# Altium footprint library uw-madison-parts.PcbLib: 30 footprints (part 1 of 2)
Each footprint in its own frame and in the unit in brackets; x right, y up, seen from the top. Pads: shape width x height; smd on the part's side, far side on the other; paste and mask are expansions set on the pad; w line width, h text height; cw(c..) or ccw(c..) is an arc to the next point about the centre after c.
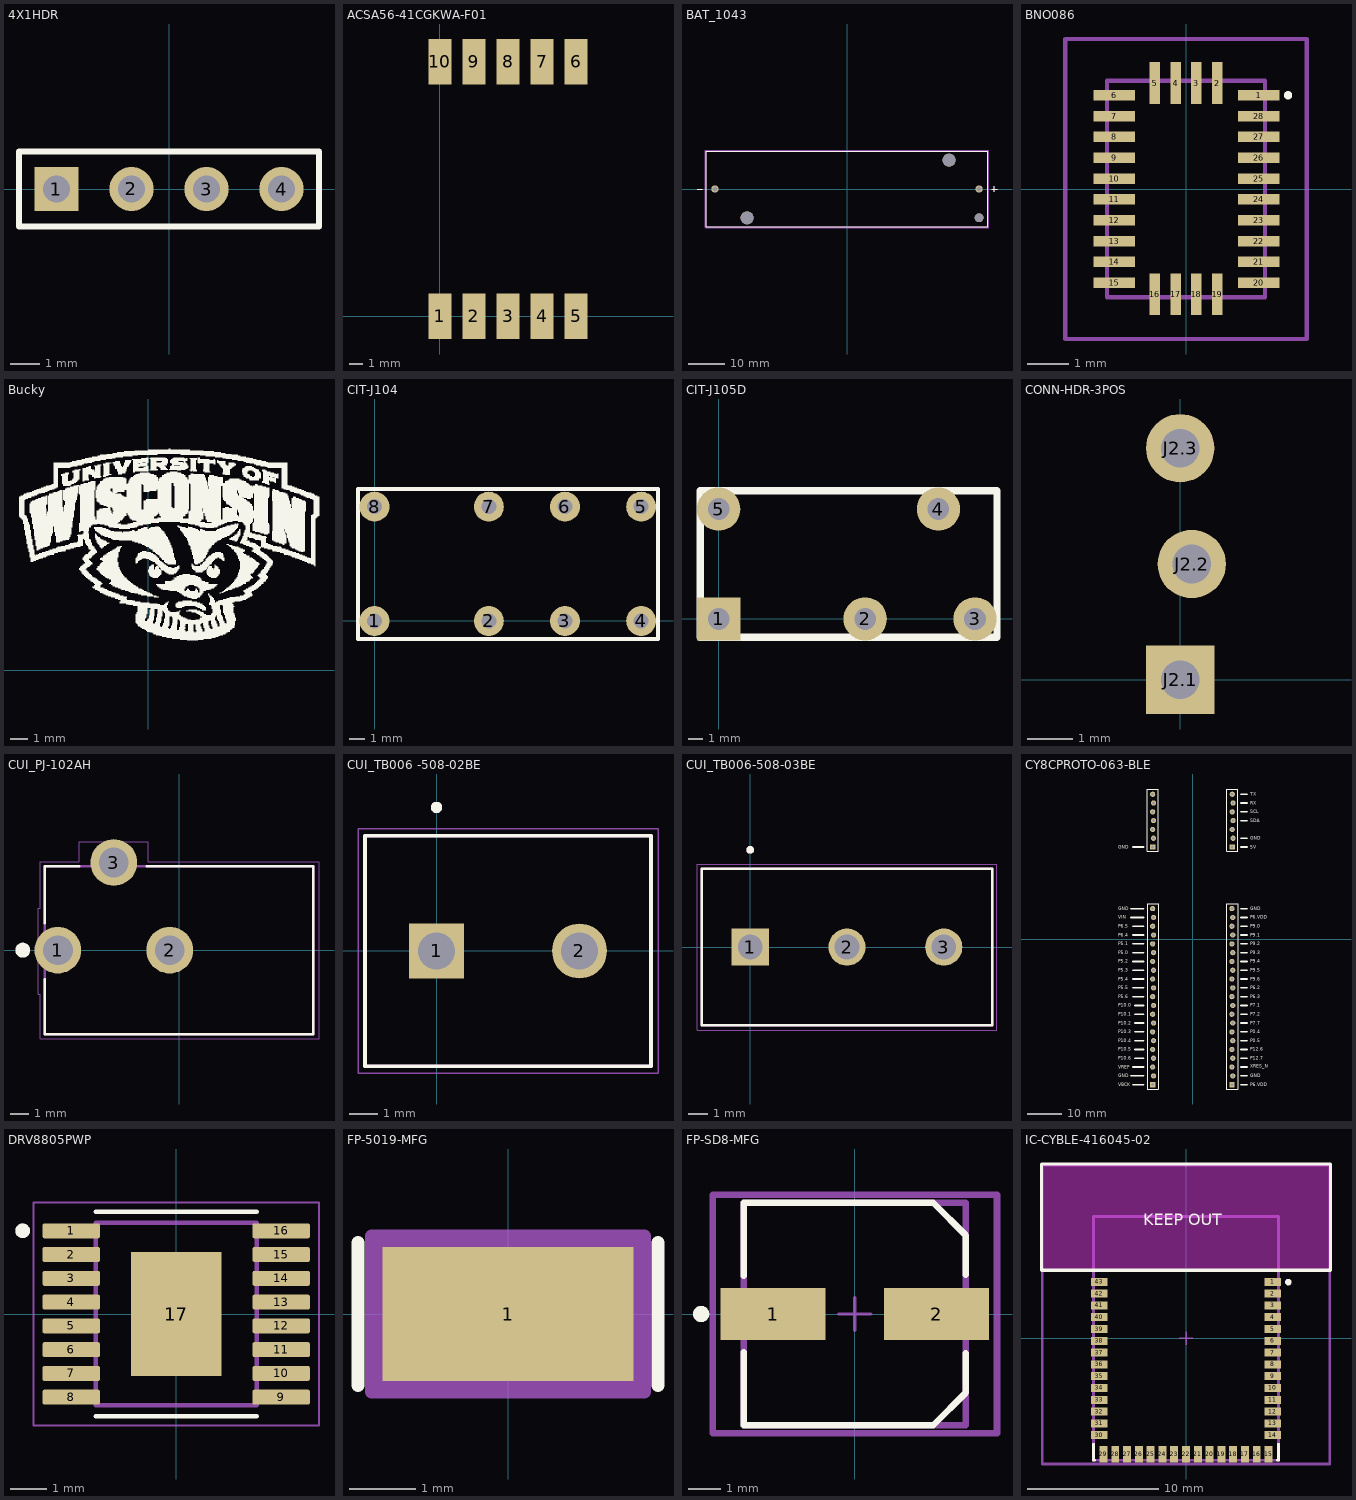
[diagram p0: the footprints below, top view; thin cyan lines are the x and y axes]

## 4X1HDR [mm]
pads (4):
  rect 1.5x1.5 hole 0.9: 1(-3.81,0)
  round 1.5 hole 0.9: 2(-1.27,0) 3(1.27,0) 4(3.81,0)
Top Overlay:
  lines w0.2: -5.08,-1.27 -5.08,1.27 5.08,1.27 5.08,-1.27 -5.08,-1.27
3D body "61300411121_Download_STP_61300411121_rev1.stp": height 8.55, standoff -2.99, extent -5.08,-1.27 5.08,1.27

## ACSA56-41CGKWA-F01 [mm]
pads (10):
  rect 1.7x3.4 smd: 1(0,0) 2(2.54,0) 3(5.08,0) 4(7.62,0) 5(10.16,0) 6(10.16,19) 7(7.62,19) 8(5.08,19) 9(2.54,19) 10(0,19)
3D body "ACSA56-41CGKWA-F01.step": height 3.8, standoff 0, extent -1.12,0.025 11.28,19.025

## BAT_1043 [mm]
height 14.86
pads (5):
  round 1.98 hole 1.32: N(-36.11,0) P(36.11,0)
  round 3.55 hole 3.55 unplated: ""(-27.29,-7.87) ""(27.91,7.87)
  round 2.39 hole 2.39 unplated: ""(36.11,-7.87)
Top Overlay:
  lines w0.127: -41,0 -39.5,0 ; 39.5,0 41,0 ; 40.25,-0.75 40.25,0.75 ; -38.525,-10.325 -38.525,10.325 38.525,10.325 38.525,-10.325 -38.525,-10.325
Mechanical 13:
  lines w0.127: -41,0 -39.5,0 ; 39.5,0 41,0 ; 40.25,-0.75 40.25,0.75 ; -38.525,-10.325 -38.525,10.325 38.525,10.325 38.525,-10.325 -38.525,-10.325
Mechanical 15:
  lines w0.05: -38.775,-10.575 -38.775,10.575 38.775,10.575 38.775,-10.575 -38.775,-10.575
3D body "step_temp.STEP": height 14.86, standoff -3.56, extent -38.532,-10.325 38.532,10.325

## BNO086 [mm]
pads (28):
  rect 1x0.25 smd: 1(1.743,2.25) 6(-1.724,2.25) 7(-1.724,1.75) 8(-1.724,1.25) 9(-1.724,0.75) 10(-1.724,0.25) 11(-1.724,-0.25) 12(-1.724,-0.75) 13(-1.724,-1.25) 14(-1.724,-1.75) 15(-1.724,-2.25) 20(1.743,-2.25) 21(1.743,-1.75) 22(1.743,-1.25) 23(1.743,-0.75) 24(1.743,-0.25) 25(1.743,0.25) 26(1.743,0.75) 27(1.743,1.25) 28(1.743,1.75)
  rect 0.25x1 smd: 2(0.75,2.542) 3(0.25,2.542) 4(-0.25,2.542) 5(-0.75,2.542) 16(-0.75,-2.525) 17(-0.25,-2.525) 18(0.25,-2.525) 19(0.75,-2.525)
Top Overlay:
  lines w0.1: 2.4,2.25 cw(c2.45,2.25) 2.5,2.25 cw(c2.45,2.25) 2.4,2.25
Mechanical 15:
  lines w0.1: -1.9,-2.6 1.9,-2.6 1.9,2.6 -1.9,2.6 -1.9,-2.6
Bottom Assembly:
  lines w0.1: -2.9,-3.6 2.9,-3.6 2.9,3.6 -2.9,3.6 -2.9,-3.6
3D body "BNO086.stp": height 1.13, standoff 0, extent -1.9,-2.6 1.9,2.6

## Bucky [mm]
Top Overlay:
  drawing of 2083 lines, arcs and shapes, not listed

## CIT-J104 [mm]
pads (8):
  round 2 hole 1: 1(0,0) 2(7.62,0) 3(12.7,0) 4(17.78,0) 5(17.78,7.62) 6(12.7,7.62) 7(7.62,7.62) 8(0,7.62)
Top Overlay:
  lines w0.25: -1.1,-1.2 -1.1,8.8 18.9,8.8 18.9,-1.2 -1.1,-1.2

## CIT-J105D [mm]
pads (5):
  rect 3x3 hole 1.5: 1(0,0)
  round 3 hole 1.5: 2(10.16,0) 3(17.78,0) 4(15.24,7.62) 5(0,7.62)
Top Overlay:
  lines w0.5: -1.27,-1.27 -1.27,8.89
  lines w0.508: -1.27,-1.27 19.304,-1.27 19.304,8.89 -1.27,8.89

## CONN-HDR-3POS [mm] "CONN HEADER VERT 3POS 2.54MM"
pads (3):
  rect 1.5x1.5 hole 0.85: J2.1(0,0)
  round 1.5 hole 0.85: J2.2(0.254,2.54) J2.3(0,5.08)

## CUI_PJ-102AH [mm]
pads (3):
  round 2.5 hole 1.6: 1(-6.5,0) 2(-0.5,0) 3(-3.5,4.7)
Top Overlay:
  circle w0.4: c-8.382,0 r0.2
  lines w0.127: -7.2,-1.55 -7.2,-4.5 7.2,-4.5 7.2,4.5 -1.75,4.5 ; -7.2,1.45 -7.2,4.5 -5.35,4.5
Mechanical 13:
  lines w0.127: -7.2,-4.5 7.2,-4.5 7.2,4.5 -7.2,4.5 -7.2,-4.5
Mechanical 15:
  lines w0.05: -7.55,-2.35 -7.55,2.25 -7.45,2.25 -7.45,4.75 -5.35,4.75 -5.35,5.8 -1.65,5.8 -1.65,4.75 7.5,4.75 7.5,-4.75 -7.45,-4.75 -7.45,-2.35 -7.55,-2.35

## CUI_TB006 -508-02BE [mm]
pads (2):
  rect 1.95x1.95 / inner round 1.95 / far side rect 1.95x1.95 hole 1.3: 1(0,0)
  round 1.95 hole 1.3: 2(5.08,0)
Top Overlay:
  circle w0.2: c0,5.1 r0.1
  lines w0.127: -2.54,-4.1 -2.54,4.1 7.62,4.1 7.62,-4.1 -2.54,-4.1
Mechanical 13:
  circle w0.2: c0,5.1 r0.1
  lines w0.127: -2.54,-4.1 -2.54,4.1 7.62,4.1 7.62,-4.1 -2.54,-4.1
Mechanical 15:
  lines w0.05: -2.79,-4.35 7.87,-4.35 7.87,4.35 -2.79,4.35 -2.79,-4.35

## CUI_TB006-508-03BE [mm]
pads (3):
  rect 1.95x1.95 / inner round 1.95 / far side rect 1.95x1.95 hole 1.3: 1(0,0)
  round 1.95 hole 1.3: 2(5.08,0) 3(10.16,0)
Top Overlay:
  circle w0.2: c0,5.1 r0.1
  lines w0.127: -2.54,-4.1 12.7,-4.1 12.7,4.1 -2.54,4.1 -2.54,-4.1
Mechanical 13:
  circle w0.2: c0,5.1 r0.1
  lines w0.127: -2.54,-4.1 12.7,-4.1 12.7,4.1 -2.54,4.1 -2.54,-4.1
Mechanical 15:
  lines w0.05: -2.79,-4.35 -2.79,4.35 12.95,4.35 12.95,-4.35 -2.79,-4.35
3D body "step_temp.STEP": height 10, standoff -3.8, extent -3.04,-4.1 12.7,4.1

## CY8CPROTO-063-BLE [mm]
pads (56):
  rect 1.5x1.5 hole 0.85: J1.1(11.253,-41.911) J2.1(-11.607,-41.911) J6.1(11.353,26.671) J7.1(-11.607,26.671)
  round 1.5 hole 0.85: J1.2(11.507,-39.371) J1.3(11.253,-36.831) J1.4(11.507,-34.291) J1.5(11.253,-31.751) J1.6(11.507,-29.211) J1.7(11.253,-26.671) J1.8(11.507,-24.131) J1.9(11.253,-21.591) J1.10(11.507,-19.051) J1.11(11.253,-16.511) J1.12(11.507,-13.971) J1.13(11.253,-11.431) J1.14(11.507,-8.891) J1.15(11.253,-6.351) J1.16(11.507,-3.811) J1.17(11.253,-1.271) J1.18(11.507,1.269) J1.19(11.253,3.809) J1.20(11.507,6.349) J1.21(11.253,8.889) J2.2(-11.353,-39.371) J2.3(-11.607,-36.831) J2.4(-11.353,-34.291) J2.5(-11.607,-31.751) J2.6(-11.353,-29.211) J2.7(-11.607,-26.671) J2.8(-11.353,-24.131) J2.9(-11.607,-21.591) J2.10(-11.353,-19.051) J2.11(-11.607,-16.511) J2.12(-11.353,-13.971) J2.13(-11.607,-11.431) J2.14(-11.353,-8.891) J2.15(-11.607,-6.351) J2.16(-11.353,-3.811) J2.17(-11.607,-1.271) J2.18(-11.353,1.269) J2.19(-11.607,3.809) J2.20(-11.353,6.349) J2.21(-11.607,8.889) J6.2(11.607,29.211) J6.3(11.353,31.751) J6.4(11.607,34.291) J6.5(11.353,36.831) J6.6(11.607,39.371) J6.7(11.353,41.911) J7.2(-11.353,29.211) J7.3(-11.607,31.751) J7.4(-11.353,34.291) J7.5(-11.607,36.831) J7.6(-11.353,39.371) J7.7(-11.607,41.911)
Top Overlay:
  lines w0.254: -13.23,-43.161 -9.98,-43.161 -9.98,10.339 -13.23,10.339 -13.23,-43.161 ; -13.23,25.421 -9.98,25.421 -9.98,43.421 -13.23,43.421 -13.23,25.421 ; 9.63,-43.161 9.63,10.339 12.88,10.339 12.88,-43.161 9.63,-43.161 ; 9.73,25.421 12.98,25.421 12.98,43.421 9.73,43.421 9.73,25.421
  lines w0.508: -17.957,-39.371 -14.147,-39.371 ; -17.957,6.349 -14.147,6.349 ; -17.957,8.889 -14.147,8.889 ; -17.322,-41.911 -14.147,-41.911 ; -17.322,-36.831 -14.147,-36.831 ; -17.322,-16.511 -14.147,-16.511 ; -17.322,-13.971 -14.147,-13.971 ; -17.322,-11.431 -14.147,-11.431 ; -17.322,-8.891 -14.147,-8.891 ; -17.322,-6.351 -14.147,-6.351 ; -17.322,-3.811 -14.147,-3.811 ; -17.322,-1.271 -14.147,-1.271 ; -17.322,1.269 -14.147,1.269 ; -17.322,3.809 -14.147,3.809 ; -17.322,26.669 -14.147,26.669 ; -16.687,-34.291 -14.147,-34.291 ; -16.687,-31.751 -14.147,-31.751 ; -16.687,-29.211 -14.147,-29.211 ; -16.687,-26.671 -14.147,-26.671 ; -16.687,-24.131 -14.147,-24.131 ; -16.687,-21.591 -14.147,-21.591 ; -16.687,-19.051 -14.147,-19.051 ; 13.793,-41.911 15.698,-41.911 ; 13.793,-39.371 15.698,-39.371 ; 13.793,-36.831 15.698,-36.831 ; 13.793,-34.291 15.698,-34.291 ; 13.793,-31.751 15.698,-31.751 ; 13.793,-29.211 15.698,-29.211 ; 13.793,-26.671 15.698,-26.671 ; 13.793,-24.131 15.698,-24.131 ; 13.793,-21.591 15.698,-21.591 ; 13.793,-19.051 15.698,-19.051 ; 13.793,-16.511 15.698,-16.511 ; 13.793,-13.971 15.698,-13.971 ; 13.793,-11.431 15.698,-11.431 ; 13.793,-8.891 15.698,-8.891 ; 13.793,-6.351 15.698,-6.351 ; 13.793,-3.811 15.698,-3.811 ; 13.793,-1.271 15.698,-1.271 ; 13.793,1.269 15.698,1.269 ; 13.793,3.809 15.698,3.809 ; 13.793,6.349 15.698,6.349 ; 13.793,8.889 15.698,8.889 ; 13.793,26.669 15.698,26.669 ; 13.793,29.209 15.698,29.209 ; 13.793,34.289 15.698,34.289 ; 13.793,36.829 15.698,36.829 ; 13.793,39.369 15.698,39.369 ; 13.793,41.909 15.698,41.909
  text "GND" at -21.567,26.234 h1
  text "GND" at -21.567,8.454 h1
  text "VIN" at -21.567,5.914 h1
  text "P6.5" at -21.567,3.374 h1
  text "P6.4" at -21.567,0.834 h1
  text "P5.1" at -21.567,-1.706 h1
  text "P5.0" at -21.567,-4.246 h1
  text "P5.2" at -21.567,-6.786 h1
  text "P5.3" at -21.567,-9.326 h1
  text "P5.4" at -21.567,-11.866 h1
  text "P5.5" at -21.567,-14.406 h1
  text "P5.6" at -21.567,-16.946 h1
  text "P10.0" at -21.567,-19.486 h1
  text "P10.1" at -21.567,-22.026 h1
  text "P10.2" at -21.567,-24.566 h1
  text "P10.3" at -21.567,-27.106 h1
  text "P10.4" at -21.567,-29.646 h1
  text "P10.5" at -21.567,-32.186 h1
  text "P10.6" at -21.567,-34.726 h1
  text "VREF" at -21.567,-37.266 h1
  text "GND" at -21.567,-39.806 h1
  text "TX" at 16.533,41.474 h1
  text "RX" at 16.533,38.934 h1
  text "SCL" at 16.533,36.394 h1
  text "SDA" at 16.533,33.854 h1
  text "GND" at 16.533,28.774 h1
  text "5V" at 16.533,26.234 h1
  text "GND" at 16.593,8.454 h1
  text "P6.VDD" at 16.593,5.914 h1
  text "P9.0" at 16.593,3.374 h1
  text "P9.1" at 16.593,0.834 h1
  text "P9.2" at 16.593,-1.706 h1
  text "P9.3" at 16.593,-4.246 h1
  text "P9.4" at 16.593,-6.786 h1
  text "P9.5" at 16.593,-9.326 h1
  text "P9.6" at 16.593,-11.866 h1
  text "P6.2" at 16.593,-14.406 h1
  text "P6.3" at 16.593,-16.946 h1
  text "P7.1" at 16.593,-19.486 h1
  text "P7.2" at 16.593,-22.026 h1
  text "P7.7" at 16.593,-24.566 h1
  text "P0.4" at 16.593,-27.106 h1
  text "P0.5" at 16.593,-29.646 h1
  text "P12.6" at 16.593,-32.186 h1
  text "P12.7" at 16.593,-34.726 h1
  text "XRES_N" at 16.593,-37.099 h1
  text "GND" at 16.593,-39.806 h1
  text "P6.VDD" at 16.593,-42.346 h1
  text "VBCK" at -21.567,-42.346 h1

## DRV8805PWP [mm]
pads (17):
  rrect25% 1.57x0.41 smd: 1(-2.87,2.275) 2(-2.87,1.625) 3(-2.87,0.975) 4(-2.87,0.325) 5(-2.87,-0.325) 6(-2.87,-0.975) 7(-2.87,-1.625) 8(-2.87,-2.275) 9(2.87,-2.275) 10(2.87,-1.625) 11(2.87,-0.975) 12(2.87,-0.325) 13(2.87,0.325) 14(2.87,0.975) 15(2.87,1.625) 16(2.87,2.275)
  rect 2.48x3.4 smd paste-3: 17(0,0)
Top Overlay:
  circle w0.2: c-4.2,2.275 r0.1
  lines w0.127: -2.2,-2.8 2.2,-2.8 ; -2.2,2.8 2.2,2.8
Top Paste:
  region: 0.8,-1.075 -0.8,-1.075 -0.8,1.075 0.8,1.075
Mechanical 13:
  circle w0.2: c-4.2,2.275 r0.1
  lines w0.127: -2.2,-2.5 -2.2,2.5 2.2,2.5 2.2,-2.5 -2.2,-2.5
Mechanical 15:
  lines w0.05: -3.905,-3.05 -3.905,3.05 3.905,3.05 3.905,-3.05 -3.905,-3.05
3D body "step_temp.STEP": height 1.2, standoff 0, extent -3.2,-2.5 3.2,2.5

## FP-5019-MFG [mm]
pads (1):
  rect 3.8x2.03 smd paste+0 mask+0: 1(0,0)
Top Overlay:
  lines w0.2: -2.275,-1.08 -2.275,1.08 ; 2.275,-1.08 2.275,1.08
Top 3D Body:
  lines w0.2: -1.97,-1.08 1.97,-1.08 1.97,1.08 -1.97,1.08 -1.97,-1.08
Top Courtyard:
  lines w0.2: -2.07,-1.18 2.07,-1.18 2.07,1.18 -2.07,1.18 -2.07,-1.18
Top Assembly:
  lines w0.2: -2.07,-1.18 2.07,-1.18 2.07,1.18 -2.07,1.18 -2.07,-1.18
  text ".Designator" at 0,0.188 h1
Top Component Center:
  lines w0.1: -0.5,0 0.5,0 ; 0,-0.5 0,0.5

## FP-SD8-MFG [mm]
pads (2):
  rect 3.2x1.6 smd paste+0 mask+0: 1(-2.5,0) 2(2.5,0)
Top Overlay:
  circle w0.25: c-4.7,0 r0.125
  lines w0.2: -3.4,-1.175 -3.4,-3.4 2.4,-3.4 3.4,-2.4 3.4,-1.2 ; -3.4,1.175 -3.4,3.4 2.4,3.4 3.4,2.4 3.4,1.2
Top 3D Body:
  lines w0.2: -3.4,-3.4 3.4,-3.4 3.4,3.4 -3.4,3.4 -3.4,-3.4
Top Courtyard:
  lines w0.2: -4.35,-3.65 4.35,-3.65 4.35,3.65 -4.35,3.65 -4.35,-3.65
Top Assembly:
  lines w0.2: -4.35,-3.65 4.35,-3.65 4.35,3.65 -4.35,3.65 -4.35,-3.65
  text ".Designator" at 0,0.188 h1
Top Component Center:
  lines w0.1: -0.5,0 0.5,0 ; 0,-0.5 0,0.5
3D body "Cap_Panasonic_Electronic_Components_EEE-1HA470XP_eec.STEP": height 0.25, standoff 0, extent -4.35,-3.65 4.35,3.65

## IC-CYBLE-416045-02 [mm]
pads (43):
  rect 1.27x0.61 smd paste+0 mask+0: 1(6.619,4.32) 2(6.619,3.42) 3(6.619,2.52) 4(6.619,1.62) 5(6.619,0.71) 6(6.619,-0.19) 7(6.619,-1.09) 8(6.619,-1.99) 9(6.619,-2.89) 10(6.619,-3.79) 11(6.619,-4.7) 12(6.619,-5.6) 13(6.619,-6.5) 14(6.619,-7.4) 30(-6.619,-7.4) 31(-6.619,-6.5) 32(-6.619,-5.6) 33(-6.619,-4.7) 34(-6.619,-3.79) 35(-6.619,-2.89) 36(-6.619,-1.99) 37(-6.619,-1.09) 38(-6.619,-0.19) 39(-6.619,0.71) 40(-6.619,1.62) 41(-6.619,2.52) 42(-6.619,3.42) 43(-6.619,4.32)
  rect 0.61x1.27 smd paste+0 mask+0: 15(6.31,-8.869) 16(5.41,-8.869) 17(4.51,-8.869) 18(3.61,-8.869) 19(2.71,-8.869) 20(1.8,-8.869) 21(0.9,-8.869) 22(0,-8.869) 23(-0.9,-8.869) 24(-1.8,-8.869) 25(-2.7,-8.869) 26(-3.61,-8.869) 27(-4.51,-8.869) 28(-5.41,-8.869) 29(-6.31,-8.869)
Top Overlay:
  circle w0.25: c7.825,4.305 r0.125
  lines w0.2: -7.075,-8.08 -7.075,-9.325 -6.99,-9.325 ; 6.99,-9.325 7.075,-9.325 7.075,-8.08
  lines w0.254: -11.049,5.207 11.049,5.207 11.049,13.335 -11.049,13.335 -11.049,5.207
  text "KEEP OUT" at -3.277,8.661 h0.89
Keep-Out Layer:
  rectangle: -11,5.207 11,13.25
  rectangle: -11,5.207 11,13.25
Board:
  lines w0.2: -7.075,-9.325 -7.075,9.325 7.075,9.325 7.075,-9.325 -7.075,-9.325
Top Courtyard:
  lines w0.2: -11,-9.604 -11,13.25 11,13.25 11,-9.604 -11,-9.604
Top Assembly:
  lines w0.2: -11,-9.604 -11,13.25 11,13.25 11,-9.604 -11,-9.604
  text ".Designator" at 0,2.011 h1
Top Component Center:
  lines w0.1: -0.5,0 0.5,0 ; 0,-0.5 0,0.5
3D body "UNK_Cypress_Semiconductor_CYBLE-416045-02_eec.STEP": height 0.25, standoff 0, extent -11,-9.604 11,13.25